# Altium footprint library Molex_Picoblade_9pin_53047-0910.PcbLib: 1 footprints
Each footprint in its own frame and in the unit in brackets; x right, y up, seen from the top. Pads: shape width x height; smd on the part's side, far side on the other; paste and mask are expansions set on the pad; w line width, h text height; cw(c..) or ccw(c..) is an arc to the next point about the centre after c.
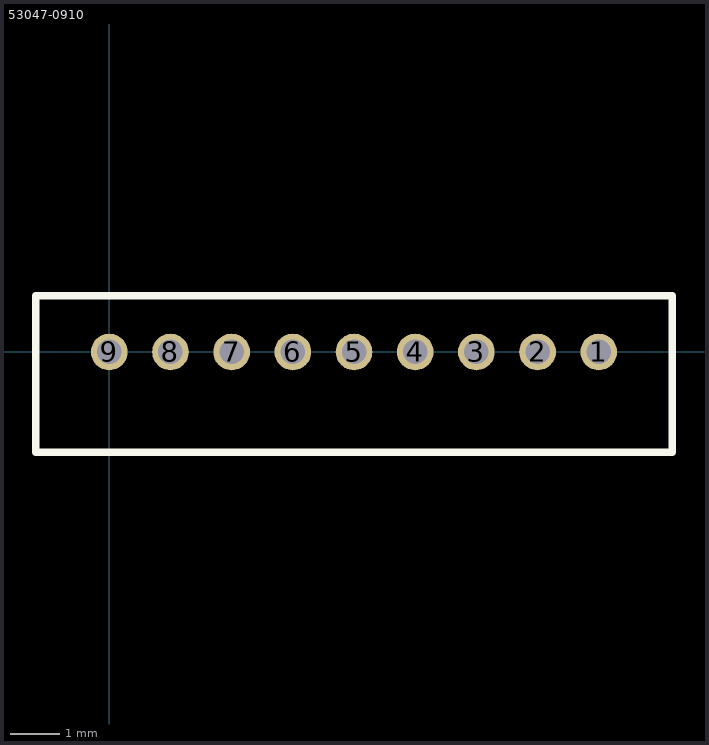
[diagram p0: the footprint, top view; thin cyan lines are the x and y axes]

## 53047-0910 [mm] "Molex Picoblade 9pin 53047-0910"
height 4.2
pads (9):
  round 0.75 hole 0.5: 1(10,0) 2(8.75,0) 3(7.5,0) 4(6.25,0) 5(5,0) 6(3.75,0) 7(2.5,0) 8(1.25,0) 9(0,0)
Top Overlay:
  lines w0.15: -1.501,1.15 -1.5,-2.05 11.5,-2.05 11.499,1.15 -1.501,1.15
3D body "Molex_Picoblade_9pin_53047-0910_CAD.stp": height 4.28, standoff -2.22, extent -1.5,-2.05 11.5,1.15